# EAGLE library part SP3223ECA-L (library Exar_By_element14_Batch_1)
Intelligent +3.0V to +5.5V RS-232 Transceivers
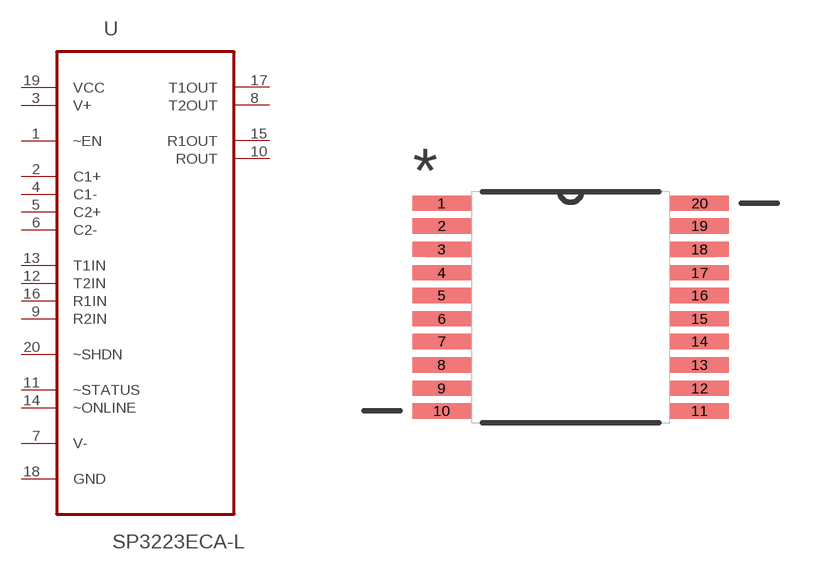
[diagram p19: symbol with the pads of SOP65P780X200-20N; footprint SOP65P780X200-20N]

Designator prefix U

## SP3223ECA-L (MPN: SP3223ECA-L; OC_FARNELL: 9386815; OC_NEWARK: 24R0302; PACKAGE: SSOP-20; SUPPLIER: EXAR)  [SOP65P780X200-20N]
1  ~EN  in
2  C1+  in
3  V+  pwr
4  C1-  in
5  C2+  in
6  C2-  in
7  V-  pwr
8  T2OUT  out
9  R2IN  in
10  ROUT  out
11  ~STATUS  pas
12  T2IN  in
13  T1IN  in
14  ~ONLINE  pas
15  R1OUT  out
16  R1IN  in
17  T1OUT  out
18  GND  pas
19  VCC  pwr
20  ~SHDN  pas

## Footprint SOP65P780X200-20N (pad centres in mm)
smd 1.651 x 0.432: 1 -3.632,2.921; 2 -3.632,2.286; 3 -3.632,1.626; 4 -3.632,0.965; 5 -3.632,0.33; 6 -3.632,-0.33; 7 -3.632,-0.965; 8 -3.632,-1.626; 9 -3.632,-2.286; 10 -3.632,-2.921; 11 3.632,-2.921; 12 3.632,-2.286; 13 3.632,-1.626; 14 3.632,-0.965; 15 3.632,-0.33; 16 3.632,0.33; 17 3.632,0.965; 18 3.632,1.626; 19 3.632,2.286; 20 3.632,2.921